# Altium schematic symbol library adc.SchLib: 13 symbols
Pins are listed as number, name and electrical type; pins without a type are passive.

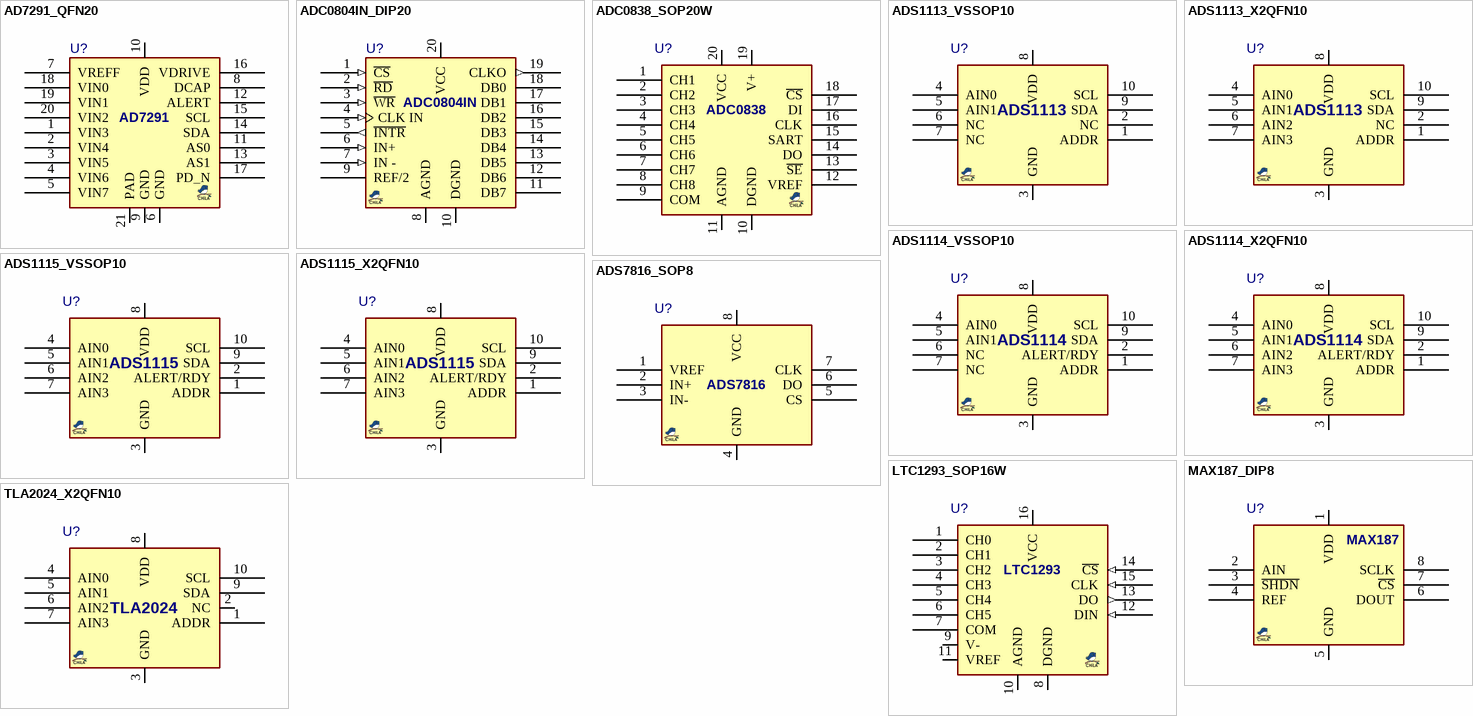
[diagram p0: symbols AD7291_QFN20 to TLA2024_X2QFN10]

## AD7291_QFN20
designator U?, comment AD7291  (value not drawn)
ADC, 12-Bit, 8-Ch, SAR, I2C, + temp sensor; MANF: Analog Devices; MANF_P#: AD7291BCPZ; PARAM2: 2.8~3.6VCC, 1.65~3.6VIO; PRICE: 9$; VALUE: AD7291; PACKAGE: QFN-20
footprint QFN50_20T (QFN, 20, 4X4mm, 0.5mm)
pins: 1 VIN3, 2 VIN4, 3 VIN5, 4 VIN6, 5 VIN7, 6 GND, 7 VREFF, 8 DCAP, 9 GND, 10 VDD, 11 AS0, 12 ALERT, 13 AS1, 14 SDA, 15 SCL, 16 VDRIVE, 17 PD_N, 18 VIN0, 19 VIN1, 20 VIN2, 21 PAD

## ADC0804IN_DIP20
designator U?, comment ADC0804IN  (value not drawn)
ADC, 8-Bit ,Differential Inputs; MANF_P#: ADC0804IN; VALUE: ADC0804IN; PACKAGE: DIP-20
footprint DIP_20 (DIP, pitch 2.54mm, 300mil Width)
pins: 1 ~{CS} (in), 2 ~{RD} (in), 3 ~{WR} (in), 4 CLK IN (in), 5 ~{INTR} (out), 6 IN+ (in), 7 IN - (in), 8 AGND (power), 9 REF/2, 10 DGND (power), 11 DB7 (hiz), 12 DB6 (hiz), 13 DB5 (hiz), 14 DB4 (hiz), 15 DB3 (hiz), 16 DB2 (hiz), 17 DB1 (hiz), 18 DB0 (hiz), 19 CLKO (out), 20 VCC (power)

## ADC0838_SOP20W
designator U?, comment ADC0838  (value not drawn)
ADC, 8-Bit, 8CH, SERIAL IO; MANF: TI; MANF_P#: ADC0838CIWMX; PARAM: 8-Bit, 8CH; PRICE: 3$; VALUE: ADC0838; PACKAGE: SOIC-20W
footprint SO_20_W (SOP, SOIC, 7.5mm wide, 1.27mm pitch,)
pins: 1 CH1, 2 CH2, 3 CH3, 4 CH4, 5 CH5, 6 CH6, 7 CH7, 8 CH8, 9 COM, 10 DGND, 11 AGND, 12 VREF, 13 ~{SE}, 14 DO, 15 SART, 16 CLK, 17 DI, 18 ~{CS}, 19 V+, 20 VCC

## ADS1113_VSSOP10
designator U?, comment ADS1113  (value not drawn)
ADC, 16-BIT, 1-CH, 0.86KSPS, I2C; MANF: Texas Instruments; MANF_P#: ADS1113IDGS; PARAM2: 2~5.5V; PARAM: ADC, 16-BIT, 4-CH, 0.86KSPS, I2C, -40~85°C; PRICE: 2$; VALUE: ADS1113; PACKAGE: VSSOP-10
footprint SOG50_10 (MSSOP10, 3X3mm 0.5mm pitch, DGS, MSOP10, 10uSOP/usop10 (Dallas), MO-187BA(JEDEC))
pins: 1 ADDR, 2 NC, 3 GND, 4 AIN0, 5 AIN1, 6 NC, 7 NC, 8 VDD, 9 SDA, 10 SCL

## ADS1113_X2QFN10
designator U?, comment ADS1113  (value not drawn)
ADC, 16-BIT, 1-CH, 0.86KSPS, I2C; MANF: Texas Instruments; MANF_P#: ADS1113IRUG; PARAM2: 2~5.5V; PARAM: ADC, 16-BIT, 4-CH, 0.86KSPS, I2C, -40~85°C; PRICE: 2$; VALUE: ADS1113; PACKAGE: X2QFN-10
footprint QFN50_10_1520_RUG (X2QFN-10, RUG, 0.5mm pitch, 1.5x2x0.4mm)
pins: 1 ADDR, 2 NC, 3 GND, 4 AIN0, 5 AIN1, 6 AIN2, 7 AIN3, 8 VDD, 9 SDA, 10 SCL

## ADS1114_VSSOP10
designator U?, comment ADS1114  (value not drawn)
ADC, 16-BIT, 1-CH, 0.86KSPS, I2C, with PGA; MANF: Texas Instruments; MANF_P#: ADS1114IDGS; PARAM2: 2~5.5V; PARAM: ADC, 16-BIT, 4-CH, 0.86KSPS, I2C, -40~85°C; PRICE: 2$; VALUE: ADS1114; PACKAGE: VSSOP-10
footprint SOG50_10 (MSSOP10, 3X3mm 0.5mm pitch, DGS, MSOP10, 10uSOP/usop10 (Dallas), MO-187BA(JEDEC))
pins: 1 ADDR, 2 ALERT/RDY, 3 GND, 4 AIN0, 5 AIN1, 6 NC, 7 NC, 8 VDD, 9 SDA, 10 SCL

## ADS1114_X2QFN10
designator U?, comment ADS1114  (value not drawn)
ADC, 16-BIT, 1-CH, 0.86KSPS, I2C, with PGA; MANF: Texas Instruments; MANF_P#: ADS1114IRUG; PARAM2: 2~5.5V; PARAM: ADC, 16-BIT, 4-CH, 0.86KSPS, I2C, -40~85°C; PRICE: 2$; VALUE: ADS1114; PACKAGE: X2QFN-10
footprint QFN50_10_1520_RUG (X2QFN-10, RUG, 0.5mm pitch, 1.5x2x0.4mm)
pins: 1 ADDR, 2 ALERT/RDY, 3 GND, 4 AIN0, 5 AIN1, 6 AIN2, 7 AIN3, 8 VDD, 9 SDA, 10 SCL

## ADS1115_VSSOP10
designator U?, comment ADS1115  (value not drawn)
ADC, 16-BIT, 4-CH, 0.86KSPS, I2C, with PGA; MANF: Texas Instruments; MANF_P#: ADS1115IDGS; PARAM2: 2~5.5V; PARAM: ADC, 16-BIT, 4-CH, 0.86KSPS, I2C, -40~85°C; PRICE: 2$; VALUE: ADS1115; PACKAGE: VSSOP-10
footprint SOG50_10 (MSSOP10, 3X3mm 0.5mm pitch, DGS, MSOP10, 10uSOP/usop10 (Dallas), MO-187BA(JEDEC))
pins: 1 ADDR, 2 ALERT/RDY, 3 GND, 4 AIN0, 5 AIN1, 6 AIN2, 7 AIN3, 8 VDD, 9 SDA, 10 SCL

## ADS1115_X2QFN10
designator U?, comment ADS1115  (value not drawn)
ADC, 16-BIT, 4-CH, 0.86KSPS, I2C, with PGA; MANF: Texas Instruments; MANF_P#: ADS1115IRUG; PARAM2: 2~5.5V; PARAM: ADC, 16-BIT, 4-CH, 0.86KSPS, I2C, -40~85°C; PRICE: 2$; VALUE: ADS1115; PACKAGE: X2QFN-10
footprint QFN50_10_1520_RUG (X2QFN-10, RUG, 0.5mm pitch, 1.5x2x0.4mm)
pins: 1 ADDR, 2 ALERT/RDY, 3 GND, 4 AIN0, 5 AIN1, 6 AIN2, 7 AIN3, 8 VDD, 9 SDA, 10 SCL

## ADS7816_SOP8
designator U?, comment ADS7816  (value not drawn)
ADC, 12-bit, 200kHz; MANF: TI; MANF_P#: ADS7816U; PARAM2: 7$; PARAM: 12-bit, 200kHz; VALUE: ADS7816; PACKAGE: SOP-8
footprint SO_8 (SOP-8, 5x3.9mm body 1.27mm pitch, SOT96-1, M08A, S8, SOIC8, VO8, MS-012AA(JEDEC), R-8, 8S2, VOG8)
pins: 1 VREF, 2 IN+, 3 IN-, 4 GND, 5 CS, 6 DO, 7 CLK, 8 VCC

## LTC1293_SOP16W
designator U?, comment LTC1293  (value not drawn)
ADC, 6-CH differential; MANF: Linear Technology; MANF_P#: LTC1293DCSW; VALUE: LTC1293; PACKAGE: SOIC-16W
footprint SO_16_W (SOP, SOIC, 7.5mm width, 1.27mm pitch,)
pins: 1 CH0, 2 CH1, 3 CH2, 4 CH3, 5 CH4, 6 CH5, 7 COM (power), 8 DGND (power), 9 V- (power), 10 AGND (power), 11 VREF (power), 12 DIN (in), 13 DO (out), 14 ~{CS} (in), 15 CLK (in), 16 VCC (power)

## MAX187_DIP8
designator U?, comment MAX187  (value not drawn)
ADC, 12-bit, SERIAL, 75Ksps; MANF: Maxim Integrated; MANF_P#: MAX187ACPA+; VALUE: MAX187; PACKAGE: DIP-8
footprint DIP_8 (DIP, pitch 2.54mm, 300mil Width)
pins: 1 VDD, 2 AIN, 3 ~{SHDN}, 4 REF, 5 GND, 6 DOUT, 7 ~{CS}, 8 SCLK

## TLA2024_X2QFN10
designator U?, comment TLA2024  (value not drawn)
ADC, 12-BIT, 4-CH, 3.3KSPS, I2C; MANF: Texas Instruments; MANF_P#: TLA2024IRUG; PARAM2: 2~5.5V; PARAM: 12-BIT, 3.3KSPS, I2C, -40~85°C; PRICE: 2$; VALUE: TLA2024; PACKAGE: X2QFN-10
footprint QFN50_10_1520_RUG (X2QFN-10, RUG, 0.5mm pitch, 1.5x2x0.4mm)
pins: 1 ADDR, 2 NC, 3 GND, 4 AIN0, 5 AIN1, 6 AIN2, 7 AIN3, 8 VDD, 9 SDA, 10 SCL